# EAGLE library part NC7WZ07 (library crasbe)
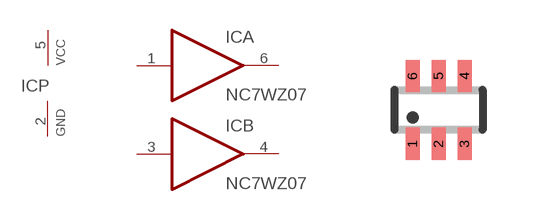
[diagram p45: symbol with the pads of SC70-6L; footprint SC70-6L]

Designator prefix IC; gates A=BUF_NONINV B=BUF_NONINV P=VCC1GND1

## NC7WZ07P6X  [SC70-6L]
1  A:I  in
2  P:GND  pwr
3  B:I  in
4  B:O  oc
5  P:VCC  pwr
6  A:O  oc

## Footprint SC70-6L (pad centres in mm)
smd 0.35 x 0.8: 1 -0.92,-0.74; 2 -0.27,-0.74; 3 0.38,-0.74; 4 0.38,0.96; 5 -0.27,0.96; 6 -0.92,0.96